# Altium footprint library PCB - LEADLESS - DFN - ANALOG DEVICES DFN-14 4x3MM DE14MA.PcbLib: 1 footprints
Each footprint in its own frame and in the unit in brackets; x right, y up, seen from the top. Pads: shape width x height; smd on the part's side, far side on the other; paste and mask are expansions set on the pad; w line width, h text height; cw(c..) or ccw(c..) is an arc to the next point about the centre after c.
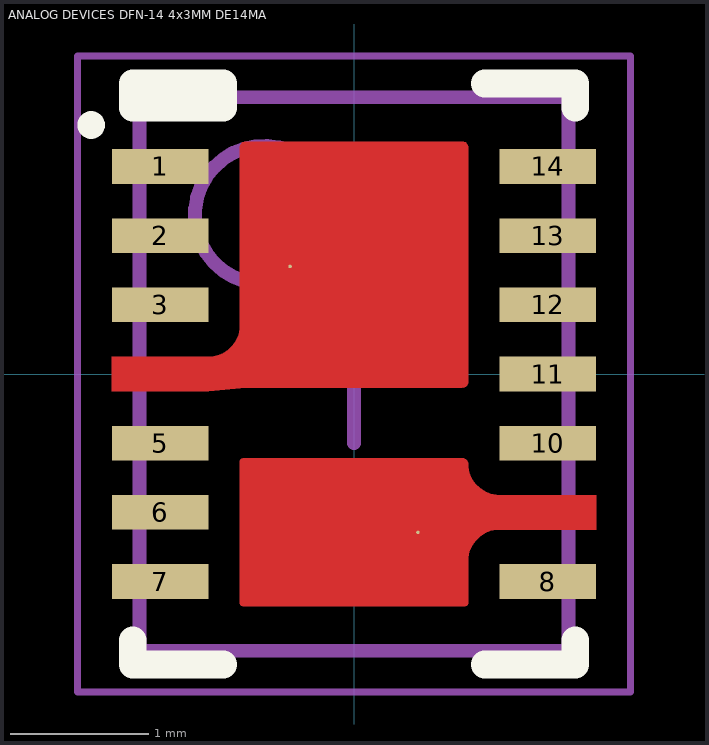
[diagram p0: the footprint, top view; thin cyan lines are the x and y axes]

## ANALOG DEVICES DFN-14 4x3MM DE14MA [mm] "DFN, 14-Leads, Body 4.00x3.00mm, Pitch 0.50mm, Thermal Pad 2.40x1.49mm"
height 0.8
pads (14):
  rect 0.7x0.25 smd: 1(-1.4,1.5) 2(-1.4,1) 3(-1.4,0.5) 5(-1.4,-0.5) 6(-1.4,-1) 7(-1.4,-1.5) 8(1.4,-1.5) 10(1.4,-0.5) 11(1.4,0) 12(1.4,0.5) 13(1.4,1) 14(1.4,1.5)
  round 0.025 smd mask+0: 4(-0.463,0.777) 9(0.463,-1.145)
Top Layer:
  region: -0.825,-1.653 -0.825,-0.637 -0.825,-0.631 -0.821,-0.622 -0.813,-0.614 -0.804,-0.61 -0.798,-0.61 0.785,-0.61 0.793,-0.61 0.808,-0.616 0.819,-0.627 0.825,-0.642 0.825,-0.65 0.826,-0.672 0.835,-0.715 0.852,-0.756 0.876,-0.793 0.907,-0.824 0.944,-0.848 0.985,-0.865 1.028,-0.874 1.05,-0.875 1.75,-0.875 1.75,-1.125 1.05,-1.125 1.028,-1.126 0.985,-1.135 0.944,-1.152 0.907,-1.176 0.876,-1.207 0.852,-1.244 0.835,-1.285 0.826,-1.328 0.825,-1.35 0.825,-1.653 0.825,-1.659 0.821,-1.668 0.813,-1.676 0.804,-1.68 0.798,-1.68 -0.798,-1.68 -0.804,-1.68 -0.813,-1.676 -0.821,-1.668 -0.825,-1.659
  region: -1.75,-0.125 -1.75,0.125 -1.05,0.125 -1.028,0.126 -0.985,0.135 -0.944,0.152 -0.907,0.176 -0.876,0.207 -0.852,0.244 -0.835,0.285 -0.826,0.328 -0.825,0.35 -0.825,1.639 -0.825,1.647 -0.819,1.662 -0.807,1.674 -0.792,1.68 -0.784,1.68 0.784,1.68 0.792,1.68 0.807,1.674 0.819,1.662 0.825,1.647 0.825,1.639 0.825,-0.059 0.825,-0.067 0.819,-0.082 0.807,-0.094 0.792,-0.1 0.784,-0.1 -0.784,-0.1 -1.05,-0.125
Top Overlay:
  circle w0.1: c-1.9,1.8 r0.05
  lines w0.2: -1.6,-1.925 -1.6,-2.1 -0.945,-2.1 ; 0.945,-2.1 1.6,-2.1 1.6,-1.925 ; 0.945,2.1 1.6,2.1 1.6,1.925 ; -1.6,1.925 -0.945,1.925 -0.945,2.1 -1.6,2.1 -1.6,1.925
Mechanical 13:
  circle w0.1: c-0.65,1.15 r0.5
  lines w0.1: -1.55,-2 1.55,-2 1.55,2 -1.55,2 -1.55,-2
Mechanical 15:
  lines w0.05: -2,-2.3 2,-2.3 2,2.3 -2,2.3 -2,-2.3
  lines w0.1: -0.5,0 0.5,0 ; 0,-0.5 0,0.5
3D body "ANALOG DEVICES DFN-14 4X3MM DE14MA.step": height 0.8, standoff 0, extent -1.525,-2 1.525,2